# EAGLE library part HMC544E (library NewSDR)
Hittite GaAs MMIC T/R Switch DC-4 GHz
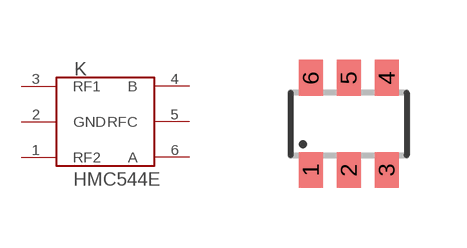
[diagram p139: symbol with the pads of SOT-26; footprint SOT-26]

Designator prefix K

## HMC544E  [SOT-26]
1  RF2
2  GND  pwr
3  RF1
4  B  in
5  RFC
6  A  in

## Footprint SOT-26 (pad centres in mm)
smd 0.6 x 0.9: 1 -0.95,-1.15; 2 0,-1.15; 3 0.95,-1.15; 4 0.95,1.15; 5 0,1.15; 6 -0.95,1.15